# EAGLE library part MCP2515 (library borkedlabs-transceivers)
SPI CAN Controller
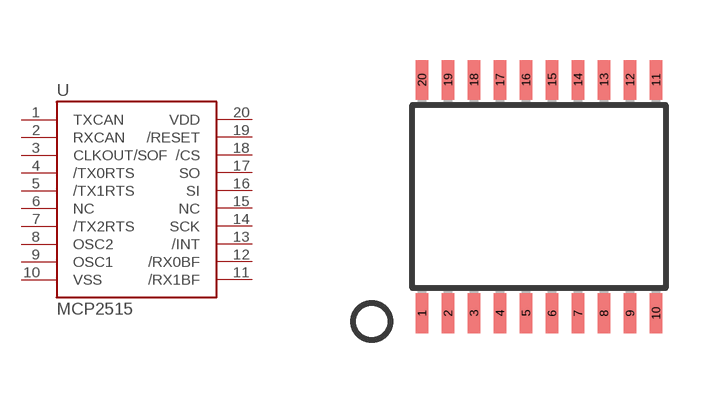
[diagram p4: symbol with the pads of TSSOP20; footprint TSSOP20]

Designator prefix U

## MCP2515/ST  [TSSOP20]
1  TXCAN
2  RXCAN
3  CLKOUT/SOF
4  /TX0RTS
5  /TX1RTS
6  NC
7  /TX2RTS
8  OSC2
9  OSC1
10  VSS
11  /RX1BF
12  /RX0BF
13  /INT
14  SCK
15  NC
16  SI
17  SO
18  /CS
19  /RESET
20  VDD

## Footprint TSSOP20 (pad centres in mm)
smd 0.305 x 0.991: 1 -2.925,-2.918; 2 -2.275,-2.918; 3 -1.625,-2.918; 4 -0.975,-2.918; 5 -0.325,-2.918; 6 0.325,-2.918; 7 0.975,-2.918; 8 1.625,-2.918; 9 2.275,-2.918; 10 2.925,-2.918; 11 2.925,2.918; 12 2.275,2.918; 13 1.625,2.918; 14 0.975,2.918; 15 0.325,2.918; 16 -0.325,2.918; 17 -0.975,2.918; 18 -1.625,2.918; 19 -2.275,2.918; 20 -2.925,2.918